# Altium schematic symbol library MKE18F512VLH16.SchLib: 2 symbols
Pins are listed as number, name and electrical type; pins without a type are passive.

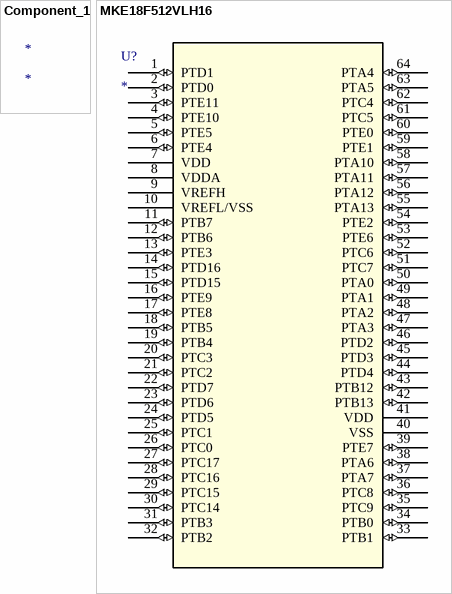
[diagram p0: symbols Component_1 to MKE18F512VLH16]

## Component_1
designator *

## MKE18F512VLH16
designator U?
No Description Available; Mfr_Name: NXP; RefDes: RefDes; Type: Type
footprint LQFP64-10x10_NXP
pins: 1 PTD1 (io), 2 PTD0 (io), 3 PTE11 (io), 4 PTE10 (io), 5 PTE5 (io), 6 PTE4 (io), 7 VDD (power), 8 VDDA (power), 9 VREFH (power), 10 VREFL/VSS (power), 11 PTB7 (io), 12 PTB6 (io), 13 PTE3 (io), 14 PTD16 (io), 15 PTD15 (io), 16 PTE9 (io), 17 PTE8 (io), 18 PTB5 (io), 19 PTB4 (io), 20 PTC3 (io), 21 PTC2 (io), 22 PTD7 (io), 23 PTD6 (io), 24 PTD5 (io), 25 PTC1 (io), 26 PTC0 (io), 27 PTC17 (io), 28 PTC16 (io), 29 PTC15 (io), 30 PTC14 (io), 31 PTB3 (io), 32 PTB2 (io), 33 PTB1 (io), 34 PTB0 (io), 35 PTC9 (io), 36 PTC8 (io), 37 PTA7 (io), 38 PTA6 (io), 39 PTE7 (io), 40 VSS (power), 41 VDD (power), 42 PTB13 (io), 43 PTB12 (io), 44 PTD4 (io), 45 PTD3 (io), 46 PTD2 (io), 47 PTA3 (io), 48 PTA2 (io), 49 PTA1 (io), 50 PTA0 (io), 51 PTC7 (io), 52 PTC6 (io), 53 PTE6 (io), 54 PTE2 (io), 55 PTA13 (io), 56 PTA12 (io), 57 PTA11 (io), 58 PTA10 (io), 59 PTE1 (io), 60 PTE0 (io), 61 PTC5 (io), 62 PTC4 (io), 63 PTA5 (io), 64 PTA4 (io)